# Altium footprint library rf_lib_pcb.PcbLib: 38 footprints (part 1 of 3)
Each footprint in its own frame and in the unit in brackets; x right, y up, seen from the top. Pads: shape width x height; smd on the part's side, far side on the other; paste and mask are expansions set on the pad; w line width, h text height; cw(c..) or ccw(c..) is an arc to the next point about the centre after c.
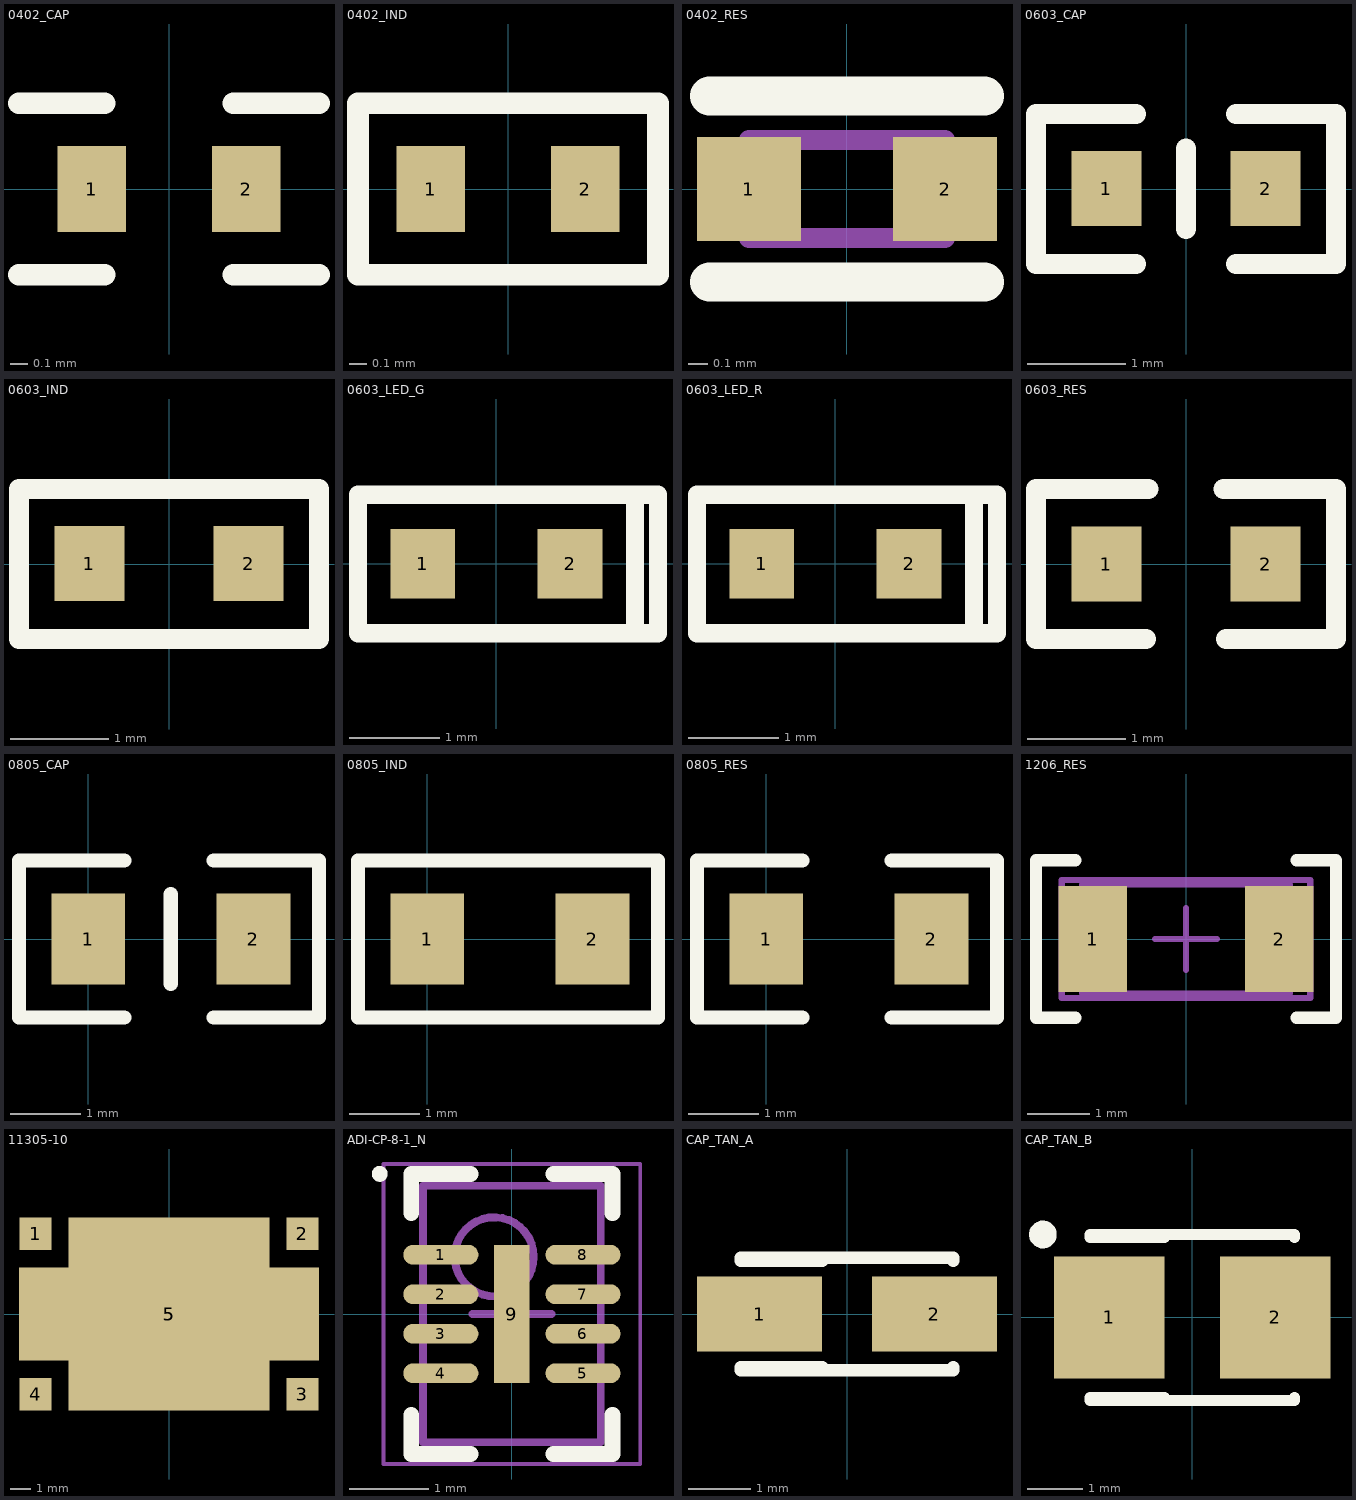
[diagram p0: the footprints below, top view; thin cyan lines are the x and y axes]

## 0402_CAP [mm] "Chip Capacitor, 2-Leads, Body 0,40x0,20mm, IPC Medium Density"
height 0.13
pads (2):
  rect 0.4x0.5 smd: 1(-0.45,0) 2(0.45,0)
Top Overlay:
  lines w0.127: -0.875,-0.5 -0.375,-0.5 ; -0.875,0.5 -0.375,0.5 ; 0.375,-0.5 0.875,-0.5 ; 0.375,0.5 0.875,0.5
3D body: height 0.6, standoff 0, extent -0.5,-0.25 0.5,0.25

## 0402_IND [mm]
height 0.13
pads (2):
  rect 0.4x0.5 smd: 1(-0.45,0) 2(0.45,0)
Top Overlay:
  lines w0.127: -0.875,-0.5 -0.875,0.5 0.875,0.5 0.875,-0.5 -0.875,-0.5
3D body: height 0.65, standoff -0.01, extent -0.593,-0.318 0.593,0.318

## 0402_RES [mm]
pads (2):
  rect 0.53x0.53 smd: 1(-0.5,0) 2(0.5,0)
Top Overlay:
  lines w0.2: -0.7,-0.475 0.7,-0.475 ; -0.7,0.475 0.7,0.475
Mechanical 13:
  lines w0.1: -0.5,-0.25 0.5,-0.25 0.5,0.25 -0.5,0.25 -0.5,-0.25
3D body: height 0.4, standoff 0, extent -0.525,-0.275 0.525,0.275

## 0603_CAP [mil]
pads (2):
  rect 28x30 smd: 1(-31.89,0.14) 2(31.89,0.14)
Top Overlay:
  lines w8: -20,-30 -60,-30 -60,30 -20,30 ; 0,-16 0,16.28 ; 20,-30 60,-30 60,30 20,30
3D body: height 35.43, standoff 0, extent -31.49,-15.74 31.5,15.75

## 0603_IND [mil]
pads (2):
  rect 28x30 smd: 1(-31.89,0.14) 2(31.89,0.14)
Top Overlay:
  lines w7.87: -60,-30 60,-30 60,30 -60,30 -60,-30
3D body: height 36.61, standoff -0.39, extent -34.45,-21.45 34.45,21.46

## 0603_LED_G [mil]
pads (2):
  rect 28x30 smd: 1(-31.89,0.14) 2(31.89,0.14)
Top Overlay:
  lines w7.87: 60,-30 -60,-30 -60,30 60,30 ; 60,-30 60,30 ; 60,-30 70,-30 70,30 60,30
3D body: height 23.62, standoff 0, extent -31.9,-15.75 31.88,15.75

## 0603_LED_R [mil]
pads (2):
  rect 28x30 smd: 1(-31.89,0.14) 2(31.89,0.14)
Top Overlay:
  lines w7.87: 60,-30 70,-30 70,30 60,30 ; 60,-30 60,30 ; 60,-30 -60,-30 -60,30 60,30
3D body: height 23.62, standoff 0, extent -31.9,-15.75 31.89,15.75

## 0603_RES [mil]
pads (2):
  rect 28x30 smd: 1(-31.89,0) 2(31.89,0)
Top Overlay:
  lines w8: -16,-30 -60,-30 -60,30 -15,30 ; 14.92,30 60,30 60,-30 16,-30
3D body: height 17.72, standoff 0, extent -31.5,-16.14 31.49,16.14

## 0805_CAP [mm]
pads (2):
  rect 1.05x1.3 smd: 1(0,0) 2(2.35,0)
Top Overlay:
  lines w0.203: 0.515,-1.118 -0.984,-1.118 -0.984,1.118 0.515,1.118 ; 1.175,-0.635 1.175,0.635 ; 1.785,-1.118 3.283,-1.118 3.283,1.118 1.785,1.118
3D body: height 0.78, standoff 0, extent 0.143,-0.625 2.143,0.625

## 0805_IND [mm] "(2012 metric)"
height 0.7
pads (2):
  rect 1.05x1.3 smd: 1(0,0) 2(2.35,0)
Top Overlay:
  lines w0.203: -0.984,-1.118 1.785,-1.118 3.283,-1.118 3.283,1.118 1.785,1.118 -0.984,1.118 -0.984,-1.118
3D body: height 1.51, standoff -0.01, extent -0.002,-0.862 2.288,0.863

## 0805_RES [mm] "(2012 metric)"
height 0.7
pads (2):
  rect 1.05x1.3 smd: 1(0,0) 2(2.35,0)
Top Overlay:
  lines w0.203: 0.515,-1.118 -0.984,-1.118 -0.984,1.118 0.515,1.118 ; 1.785,-1.118 3.283,-1.118 3.283,1.118 1.785,1.118
3D body: height 0.76, standoff 0, extent -0.007,-0.675 2.293,0.675

## 1206_RES [mm] "3216(metric)"
height 2.54
pads (2):
  rect 1.1x1.7 smd: 1(-1.499,0) 2(1.499,0)
Top Overlay:
  lines w0.2: -1.778,-1.27 -2.413,-1.27 -2.413,1.27 -1.778,1.27 ; 1.778,-1.27 2.413,-1.27 2.413,1.27 1.778,1.27
Mechanical 13:
  lines w0.1: -1.675,-0.875 -1.675,0.875 1.675,0.875 1.675,-0.875 -1.675,-0.875
Mechanical 15:
  lines w0.1: -0.5,0 0.5,0 ; 0,-0.5 0,0.5 ; -2,-0.95 -2,0.95 2,0.95 2,-0.95 -2,-0.95
3D body: height 0.85, standoff 0, extent -1.675,-0.865 1.675,0.865

## 11305-10 [mm] "Xinger 11305-10 Directional Coupler"
pads (6):
  rect 1.6x1.6 smd: 1(-6.62,3.975) 2(6.62,3.975) 3(6.62,-3.975) 4(-6.62,-3.975)
  rect 9.96x9.55 smd: 5(0,0)
  rect 14.88x4.63 smd: 5(0,0)

## ADI-CP-8-1_N [mm] "SON, 8-Leads, Body 3x2mm, Pitch 0.5mm, Thermal Pad 1.75x0.45mm, IPC Medium Density"
height 1
pads (9):
  oval 0.95x0.25 smd: 1(-0.9,0.75) 2(-0.9,0.25) 3(-0.9,-0.25) 4(-0.9,-0.75) 5(0.9,-0.75) 6(0.9,-0.25) 7(0.9,0.25) 8(0.9,0.75)
  rect 0.45x1.75 smd: 9(0,0)
Top Overlay:
  circle w0.1: c-1.675,1.775 r0.05
  lines w0.2: -1.275,-1.275 -1.275,-1.775 -0.525,-1.775 ; -1.275,1.275 -1.275,1.775 -0.525,1.775 ; 0.525,-1.775 1.275,-1.775 1.275,-1.275 ; 0.525,1.775 1.275,1.775 1.275,1.275
Mechanical 13:
  circle w0.1: c-0.225,0.725 r0.5
  lines w0.1: -1.125,-1.625 -1.125,1.625 1.125,1.625 1.125,-1.625 -1.125,-1.625
Mechanical 15:
  lines w0.05: -1.625,-1.9 -1.625,1.9 1.625,1.9 1.625,-1.9 -1.625,-1.9
  lines w0.1: -0.5,0 0.5,0 ; 0,-0.5 0,0.5
3D body: height 1, standoff 0, extent -1.125,-1.625 1.125,1.625

## CAP_TAN_A [mm] "Capacitor, SM Tantalum; Body 3.2 x 1.6 mm (LxW typ)"
height 1.8
pads (2):
  rect 2x1.2 smd: 1(-1.4,0) 2(1.4,0)
Top Overlay:
  lines w0.2: -1.7,-0.9 1.7,-0.9 1.7,-0.85 ; -1.7,-0.85 -0.4,-0.85 ; -1.7,0.85 -0.4,0.85 ; -1.7,0.9 1.7,0.9 1.7,0.85
3D body: height 1.8, standoff -0.04, extent -2.398,-0.889 2.398,0.914

## CAP_TAN_B [mm] "Capacitor, SM Tantalum; Body 3.5 x 2.8 mm (LxW typ)"
height 2.1
pads (2):
  rect 2x2.2 smd: 1(-1.5,0) 2(1.5,0)
Top Overlay:
  circle w0.25: c-2.7,1.5 r0.125
  lines w0.2: -1.85,-1.5 1.85,-1.5 1.85,-1.45 ; -1.85,-1.45 -0.5,-1.45 ; -1.85,1.45 -0.5,1.45 ; -1.85,1.5 1.85,1.5 1.85,1.45
3D body: height 2.11, standoff -0.04, extent -2.592,-1.498 2.407,1.499